# Altium footprint library resistor.PCBLIB: 427 footprints (part 24 of 27)
Each footprint in its own frame and in the unit in brackets; x right, y up, seen from the top. Pads: shape width x height; smd on the part's side, far side on the other; paste and mask are expansions set on the pad; w line width, h text height; cw(c..) or ccw(c..) is an arc to the next point about the centre after c.
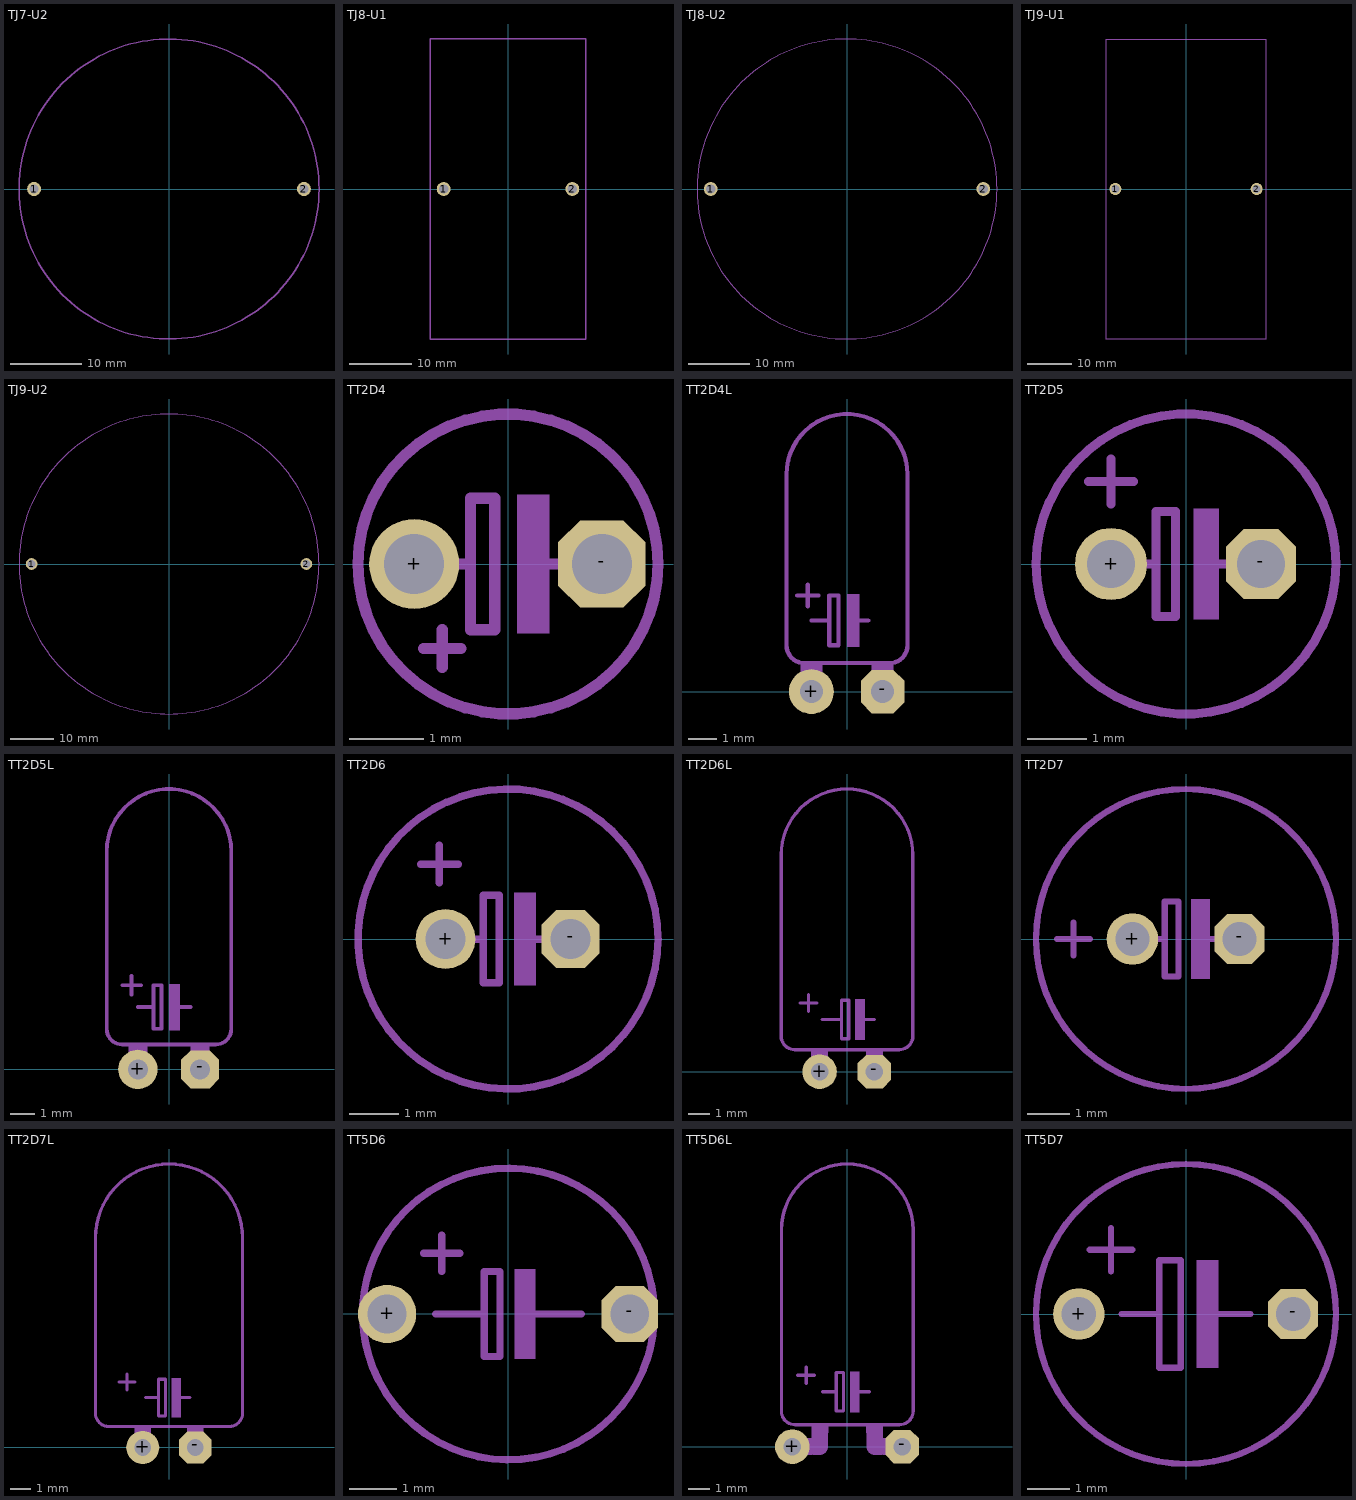
[diagram p23: the footprints below, top view; thin cyan lines are the x and y axes]

## TJ7-U2 [mil]
pads (2):
  round 76.77 / inner round 60 / far side round 76.77 hole 51.18: 1(-740.16,0) 2(740.16,0)
Mechanical 6:
  circle w8: c0,0 r822.83

## TJ8-U1 [mil]
pads (2):
  round 88.59 / inner round 60 / far side round 88.59 hole 59.06: 1(-409.45,0) 2(409.45,0)
Mechanical 22:
  lines w8: -494.09,-954.72 494.09,-954.72 494.09,954.72 -494.09,954.72 -494.09,-954.72

## TJ8-U2 [mil]
pads (2):
  round 88.59 / inner round 60 / far side round 88.59 hole 59.06: 1(-879.92,0) 2(879.92,0)
Mechanical 6:
  circle w8: c0,0 r968.5

## TJ9-U1 [mil]
pads (2):
  round 106.31 / inner round 60 / far side round 106.31 hole 70.87: 1(-625.98,0) 2(625.98,0)
Mechanical 22:
  lines w8: -706.69,-1328.74 706.69,-1328.74 706.69,1328.74 -706.69,1328.74 -706.69,-1328.74

## TJ9-U2 [mil]
pads (2):
  round 106.31 / inner round 60 / far side round 106.31 hole 70.87: 1(-1244.09,0) 2(1244.09,0)
Mechanical 6:
  circle w8: c0,0 r1358.27

## TT2D4 [mil]
pads (2):
  round 48 / inner round 60 / far side round 48 hole 32: +(-50,0)
  oct 46.48x46.48 / inner oct 60x60 / far side oct 46.48x46.48 hole 32: -(50,0)
Mechanical 8:
  region: 5,-37 5,37 22,37 22,-37
  lines w6: -66.87,-43.91 cw(c0,0) -66.87,43.91 ; -40,0 -20,0 ; 20,0 40,0 ; 66.87,-43.91 ccw(c0,0) 66.87,43.91 ; -20,0 -20,-35 -7,-35 -7,35 -20,35 -20,0
Mechanical 22:
  lines w6: -66.87,-43.91 ccw(c0,0) 66.87,-43.91 ; -66.87,43.91 cw(c0,0) 66.87,43.91 ; -45,-45 -25,-45 ; -35,-55 -35,-35

## TT2D4L [mil]
pads (2):
  round 63 / inner round 60 / far side round 63 hole 32: +(-50,0)
  oct 61x61 / inner oct 60x60 / far side oct 61x61 hole 32: -(50,0)
Mechanical 8:
  region: -65,25 -65,40 -35,40 -35,25
  region: 35,25 35,40 65,40 65,25
  region: 35,-5 35,25 65,25 65,-5
  region: -65,-5 -65,25 -35,25 -35,-5
Mechanical 22:
  region: 0,63 0,137 17,137 17,63
  lines w6: -70,135 -40,135 ; -55,120 -55,150 ; -50,100 -25,100 ; 10,100 30,100 ; -25,100 -25,65 -12,65 -12,135 -25,135 -25,100 ; -85,65 ccw(c-60,65) -60,40 60,40 ccw(c60,65) 85,65 85,305 ccw(c0,305) -85,305 -85,65

## TT2D5 [mil]
pads (2):
  round 48 / inner round 60 / far side round 48 hole 32: +(-50,0)
  oct 46.48x46.48 / inner oct 60x60 / far side oct 46.48x46.48 hole 32: -(50,0)
Mechanical 8:
  region: 5,-37 5,37 22,37 22,-37
  lines w6: -40,0 -20,0 ; 20,0 40,0 ; -20,0 -20,-35 -7,-35 -7,35 -20,35 -20,0
Mechanical 22:
  circle w6: c0,0 r100
  lines w6: -65,55 -35,55 ; -50,40 -50,70

## TT2D5L [mil]
pads (2):
  round 63 / inner round 60 / far side round 63 hole 32: +(-50,0)
  oct 61x61 / inner oct 60x60 / far side oct 61x61 hole 32: -(50,0)
Mechanical 8:
  region: -65,25 -65,40 -35,40 -35,25
  region: 35,25 35,40 65,40 65,25
  region: 35,-5 35,25 65,25 65,-5
  region: -65,-5 -65,25 -35,25 -35,-5
Mechanical 22:
  region: 0,63 0,137 17,137 17,63
  lines w6: -75,135 -45,135 ; -60,120 -60,150 ; -50,100 -25,100 ; 15,100 35,100 ; -25,100 -25,65 -12,65 -12,135 -25,135 -25,100 ; -100,65 -100,350 cw(c0,350) 100,350 100,65 cw(c75,65) 75,40 -75,40 cw(c-75,65) -100,65

## TT2D6 [mil]
pads (2):
  round 48 / inner round 60 / far side round 48 hole 32: +(-50,0)
  oct 46.48x46.48 / inner oct 60x60 / far side oct 46.48x46.48 hole 32: -(50,0)
Mechanical 8:
  region: 5,-37 5,37 22,37 22,-37
  lines w6: -40,0 -20,0 ; 20,0 40,0 ; -20,0 -20,-35 -7,-35 -7,35 -20,35 -20,0
Mechanical 22:
  circle w6: c0,0 r120
  lines w6: -70,60 -40,60 ; -55,45 -55,75

## TT2D6L [mil]
pads (2):
  round 63 / inner round 60 / far side round 63 hole 32: +(-50,0)
  oct 61x61 / inner oct 60x60 / far side oct 61x61 hole 32: -(50,0)
Mechanical 8:
  region: -65,25 -65,40 -35,40 -35,25
  region: 35,25 35,40 65,40 65,25
  region: 35,-5 35,25 65,25 65,-5
  region: -65,-5 -65,25 -35,25 -35,-5
Mechanical 22:
  region: 15,58 15,132 32,132 32,58
  lines w6: -85,125 -55,125 ; -70,110 -70,140 ; -45,95 -10,95 ; 30,95 50,95 ; -10,95 -10,60 3,60 3,130 -10,130 -10,95 ; -120,65 -120,395 cw(c0,395) 120,395 120,65 cw(c95,65) 95,40 -95,40 cw(c-95,65) -120,65

## TT2D7 [mil]
pads (2):
  round 48 / inner round 60 / far side round 48 hole 32: +(-50,0)
  oct 46.48x46.48 / inner oct 60x60 / far side oct 46.48x46.48 hole 32: -(50,0)
Mechanical 8:
  region: 5,-37 5,37 22,37 22,-37
  lines w6: -40,0 -20,0 ; 20,0 40,0 ; -20,0 -20,-35 -7,-35 -7,35 -20,35 -20,0
Mechanical 22:
  circle w6: c0,0 r140
  lines w6: -120,0 -90,0 ; -105,-15 -105,15

## TT2D7L [mil]
pads (2):
  round 63 / inner round 60 / far side round 63 hole 32: +(-50,0)
  oct 61x61 / inner oct 60x60 / far side oct 61x61 hole 32: -(50,0)
Mechanical 8:
  region: -65,25 -65,40 -35,40 -35,25
  region: 35,25 35,40 65,40 65,25
  region: 35,-5 35,25 65,25 65,-5
  region: -65,-5 -65,25 -35,25 -35,-5
Mechanical 22:
  region: 5,58 5,132 22,132 22,58
  lines w6: -95,125 -65,125 ; -80,110 -80,140 ; -45,95 -20,95 ; 20,95 40,95 ; -20,95 -20,60 -7,60 -7,130 -20,130 -20,95 ; -140,65 ccw(c-115,65) -115,40 115,40 ccw(c115,65) 140,65 140,400 ccw(c0,400) -140,400 -140,65

## TT5D6 [mil]
pads (2):
  round 48 / inner round 60 / far side round 48 hole 32: +(-100,0)
  oct 46.48x46.48 / inner oct 60x60 / far side oct 46.48x46.48 hole 32: -(100,0)
Mechanical 8:
  lines w6: -115,-35 cw(c0,0) -114.04,38.01 ; 114.04,-38.01 ccw(c0,0) 115,35
Mechanical 22:
  region: 5,-37 5,37 22,37 22,-37
  lines w6: -115.76,-32.41 ccw(c0,0) 115,-35 ; -114.49,36.64 cw(c0,0) 115,35 ; -70,50 -40,50 ; -60,0 -20,0 ; -55,35 -55,65 ; 20,0 60,0 ; -20,0 -20,-35 -7,-35 -7,35 -20,35 -20,0

## TT5D6L [mil]
pads (2):
  round 63 / inner round 60 / far side round 63 hole 32: +(-100,0)
  oct 61x61 / inner oct 60x60 / far side oct 61x61 hole 32: -(100,0)
Mechanical 8:
  region: 65,-15 65,15 100,15 100,-15
  region: -100,-15 -100,15 -65,15 -65,-15
  lines w30: -60,0 -50,0 ; 50,0 60,0
Mechanical 22:
  region: -65,25 -65,40 -35,40 -35,25
  region: 35,25 35,40 65,40 65,25
  region: 5,63 5,137 22,137 22,63
  lines w6: -90,130 -60,130 ; -75,115 -75,145 ; -45,100 -20,100 ; 20,100 40,100 ; -20,100 -20,65 -7,65 -7,135 -20,135 -20,100 ; -120,65 -120,395 cw(c0,395) 120,395 120,65 cw(c95,65) 95,40 -95,40 cw(c-95,65) -120,65
  lines w30: -50,0 -50,25 ; 50,0 50,25

## TT5D7 [mil]
pads (2):
  round 48 / inner round 60 / far side round 48 hole 32: +(-100,0)
  oct 46.48x46.48 / inner oct 60x60 / far side oct 46.48x46.48 hole 32: -(100,0)
Mechanical 22:
  circle w6: c0,0 r140
  region: 10,-50 10,50 30,50 30,-50
  lines w6: -90,60 -50,60 ; -70,40 -70,80 ; -60,0 -25,0 ; 25,0 60,0 ; -25,0 -25,-50 -5,-50 -5,50 -25,50 -25,0